# Altium footprint library adafruit.PCBLIB: 624 footprints (part 31 of 39)
Each footprint in its own frame and in the unit in brackets; x right, y up, seen from the top. Pads: shape width x height; smd on the part's side, far side on the other; paste and mask are expansions set on the pad; w line width, h text height; cw(c..) or ccw(c..) is an arc to the next point about the centre after c.
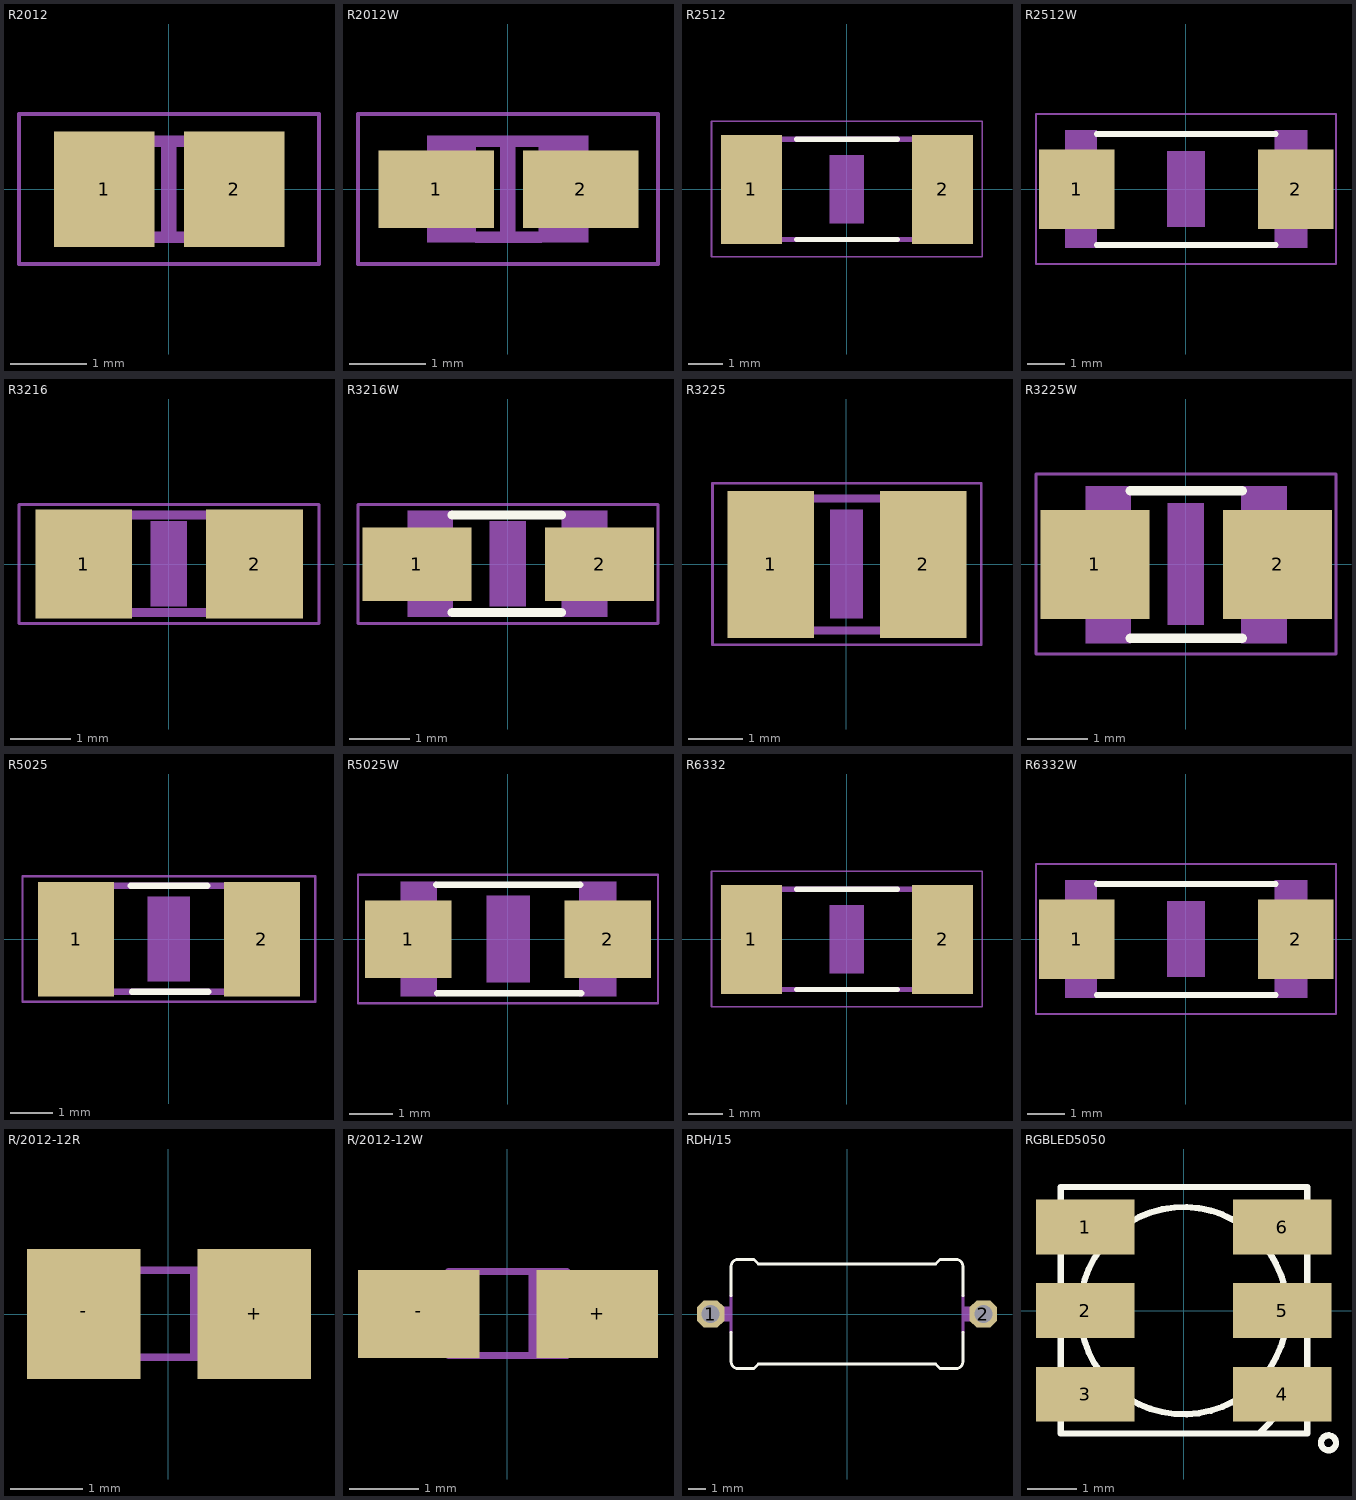
[diagram p30: the footprints below, top view; thin cyan lines are the x and y axes]

## R2012 [mil]
pads (2):
  rect 52x60 smd: 1(-33.46,0) 2(34,0)
Mechanical 6:
  rectangle: -3.94,-23.62 4,24
Mechanical 16:
  rectangle: 16,-27.5 42,28
  rectangle: -42,-27.5 -16.41,28
  lines w6: -16.14,-25 17,-25 ; -16.14,25 17,25
Mechanical 27:
  lines w2: -77.68,-38.7 78,-38.7 78,39 -77.68,39 -77.68,-38.7

## R2012W [mil]
pads (2):
  rect 60x40 smd: 1(-37.01,0) 2(38,0)
Mechanical 6:
  rectangle: -3.94,-23.62 4,24
Mechanical 16:
  rectangle: 16,-27.5 42,28
  rectangle: -42,-27.5 -16.41,28
  lines w6: -16.14,-25 17,-25 ; -16.14,25 17,25
Mechanical 27:
  lines w2: -77.68,-38.7 78,-38.7 78,39 -77.68,39 -77.68,-38.7

## R2512 [mil]
pads (2):
  rect 71x126 smd: 1(-110.24,0) 2(111,0)
Top Overlay:
  lines w6: -57.99,-57.99 59,-57.99 ; -57.99,58 59,58
Mechanical 6:
  rectangle: -19.69,-39.37 20,40
Mechanical 16:
  rectangle: -126,-61 -92.54,62
  rectangle: 93,-61 127,62
  lines w6: -92.99,-57.99 94,-57.99 ; -92.99,58 94,58
Mechanical 27:
  lines w2: -156.42,-78.07 157,-78.07 157,79 -156.42,79 -156.42,-78.07

## R2512W [mil]
pads (2):
  rect 79x83 smd: 1(-114.02,0) 2(115,0)
Top Overlay:
  lines w6: -92.99,-57.99 94,-57.99 ; -92.99,58 94,58
Mechanical 6:
  rectangle: -19.69,-39.37 20,40
Mechanical 16:
  rectangle: -126,-61 -92.54,62
  rectangle: 93,-61 127,62
Mechanical 27:
  lines w2: -156.42,-78.07 157,-78.07 157,79 -156.42,79 -156.42,-78.07

## R3216 [mil]
pads (2):
  rect 63x71 smd: 1(-55.12,0) 2(56,0)
Mechanical 6:
  rectangle: -11.81,-27.56 12,28
Mechanical 16:
  rectangle: -65,-34.5 -35.47,35
  rectangle: 35,-34.5 65,35
  lines w6: -35.94,-31.5 35,-31.5 ; -35.94,32 35,32
Mechanical 27:
  lines w2: -97.36,-38.7 98,-38.7 98,39 -97.36,39 -97.36,-38.7

## R3216W [mil]
pads (2):
  rect 71x48 smd: 1(-59.02,0) 2(60,0)
Top Overlay:
  lines w6: -35.94,-31.5 35,-31.5 ; -35.94,32 35,32
Mechanical 6:
  rectangle: -11.81,-27.56 12,28
Mechanical 16:
  rectangle: -65,-34.5 -35.47,35
  rectangle: 35,-34.5 65,35
Mechanical 27:
  lines w2: -97.36,-38.7 98,-38.7 98,39 -97.36,39 -97.36,-38.7

## R3225 [mil]
pads (2):
  rect 63x107 smd: 1(-55.12,0) 2(56,0)
Mechanical 6:
  rectangle: -11.81,-39.37 12,40
Mechanical 16:
  rectangle: -65,-51.5 -35.47,51
  rectangle: 36,-51.5 66,51
  lines w6: -35.94,-47.99 37,-47.99 ; -35.94,48 37,48
Mechanical 27:
  lines w2: -97.36,-58.39 98,-58.39 98,59 -97.36,59 -97.36,-58.39

## R3225W [mil]
pads (2):
  rect 71x71 smd: 1(-59.02,0) 2(60,0)
Top Overlay:
  lines w6: -35.94,-47.99 37,-47.99 ; -35.94,48 37,48
Mechanical 6:
  rectangle: -11.81,-39.37 12,40
Mechanical 16:
  rectangle: -65,-51.5 -35.47,51
  rectangle: 36,-51.5 66,51
Mechanical 27:
  lines w2: -97.36,-58.39 98,-58.39 98,59 -97.36,59 -97.36,-58.39

## R5025 [mil]
pads (2):
  rect 71x107 smd: 1(-86.61,0) 2(87,0)
Top Overlay:
  lines w6: -35.43,50 36,50 ; -34.45,-49.02 37,-49.02
Mechanical 6:
  rectangle: -19.69,-39.37 20,40
Mechanical 16:
  rectangle: -98,-52 -64.54,53
  rectangle: 65,-52 99,53
  lines w6: -65.43,50 66,50 ; -64.45,-49.02 67,-49.02
Mechanical 27:
  lines w2: -136.73,-58.39 137,-58.39 137,59 -136.73,59 -136.73,-58.39

## R5025W [mil]
pads (2):
  rect 79x71 smd: 1(-90.98,0) 2(91,0)
Top Overlay:
  lines w6: -65.43,50 66,50 ; -64.45,-49.02 67,-49.02
Mechanical 6:
  rectangle: -19.69,-39.37 20,40
Mechanical 16:
  rectangle: -98,-52 -64.54,53
  rectangle: 65,-52 99,53
Mechanical 27:
  lines w2: -136.73,-58.39 137,-58.39 137,59 -136.73,59 -136.73,-58.39

## R6332 [mil]
pads (2):
  rect 71x126 smd: 1(-110.24,0) 2(111,0)
Top Overlay:
  lines w6: -57.99,-57.99 59,-57.99 ; -57.99,58 59,58
Mechanical 6:
  rectangle: -19.69,-39.37 20,40
Mechanical 16:
  rectangle: -126,-61 -92.54,62
  rectangle: 93,-61 127,62
  lines w6: -92.99,-57.99 94,-57.99 ; -92.99,58 94,58
Mechanical 27:
  lines w2: -156.42,-78.07 157,-78.07 157,79 -156.42,79 -156.42,-78.07

## R6332W [mil]
pads (2):
  rect 79x83 smd: 1(-114.02,0) 2(115,0)
Top Overlay:
  lines w6: -92.99,-57.99 94,-57.99 ; -92.99,58 94,58
Mechanical 6:
  rectangle: -19.69,-39.37 20,40
Mechanical 16:
  rectangle: -126,-61 -92.54,62
  rectangle: 93,-61 127,62
Mechanical 27:
  lines w2: -156.42,-78.07 157,-78.07 157,79 -156.42,79 -156.42,-78.07

## R/2012-12R [mil]
pads (2):
  rect 62x71 smd: +(47,0) -(-46.26,0)
Mechanical 16:
  rectangle: -39.37,-17.72 -34.45,18
  rectangle: 35,-17.72 40,18
  rectangle: 12,-24.61 20,25
  lines w4: -33.46,-23.62 34,-23.62 34,24 -33.46,24 -33.46,-23.62

## R/2012-12W [mil]
pads (2):
  rect 69x50 smd: +(51,0) -(-50.2,0)
Mechanical 16:
  rectangle: -39.37,-17.72 -34.45,18
  rectangle: 35,-17.72 40,18
  rectangle: 12,-24.61 20,25
  lines w4: -33.46,-23.62 34,-23.62 34,24 -33.46,24 -33.46,-23.62

## RDH/15 [mil]
pads (2):
  oct 60x60 hole 40: 1(-300,0) 2(300,0)
Top Overlay:
  lines w6: -255,-40 -255,-105 ccw(c-240,-105) -240,-120 -205,-120 -195,-110 195,-110 205,-120 240,-120 ccw(c240,-105) 255,-105 255,-40 ; -255,40 -255,105 cw(c-240,105) -240,120 -205,120 -195,110 195,110 205,120 240,120 cw(c240,105) 255,105 255,40
Mechanical 16:
  rectangle: -266,-16 -254,16
  rectangle: 254,-16 266,16
  lines w6: -255,-40 -255,40 ; 255,-40 255,40
  lines w32: -300,0 -270,0 ; 270,0 300,0
  text "RDH" at 180,-68 h77.5

## RGBLED5050 [mil]
pads (6):
  rect 79x44 smd: 1(-78.74,67) 2(-78.74,0) 3(-78.74,-66.93) 4(79,-66.93) 5(79,0) 6(79,67)
Top Overlay:
  circle w5: c116,-105.83 r6
  circle w5: c0,0 r83
  lines w5: 60,-98.43 99,-98.43 99,-59.06 ; 60,-98.43 -98.43,-98.43 -98.43,99 99,99 99,-59.06 ; 60,-98.43 99,-59.06